# Altium footprint library RM_addition.PcbLib: 124 footprints (part 4 of 8)
Each footprint in its own frame and in the unit in brackets; x right, y up, seen from the top. Pads: shape width x height; smd on the part's side, far side on the other; paste and mask are expansions set on the pad; w line width, h text height; cw(c..) or ccw(c..) is an arc to the next point about the centre after c.
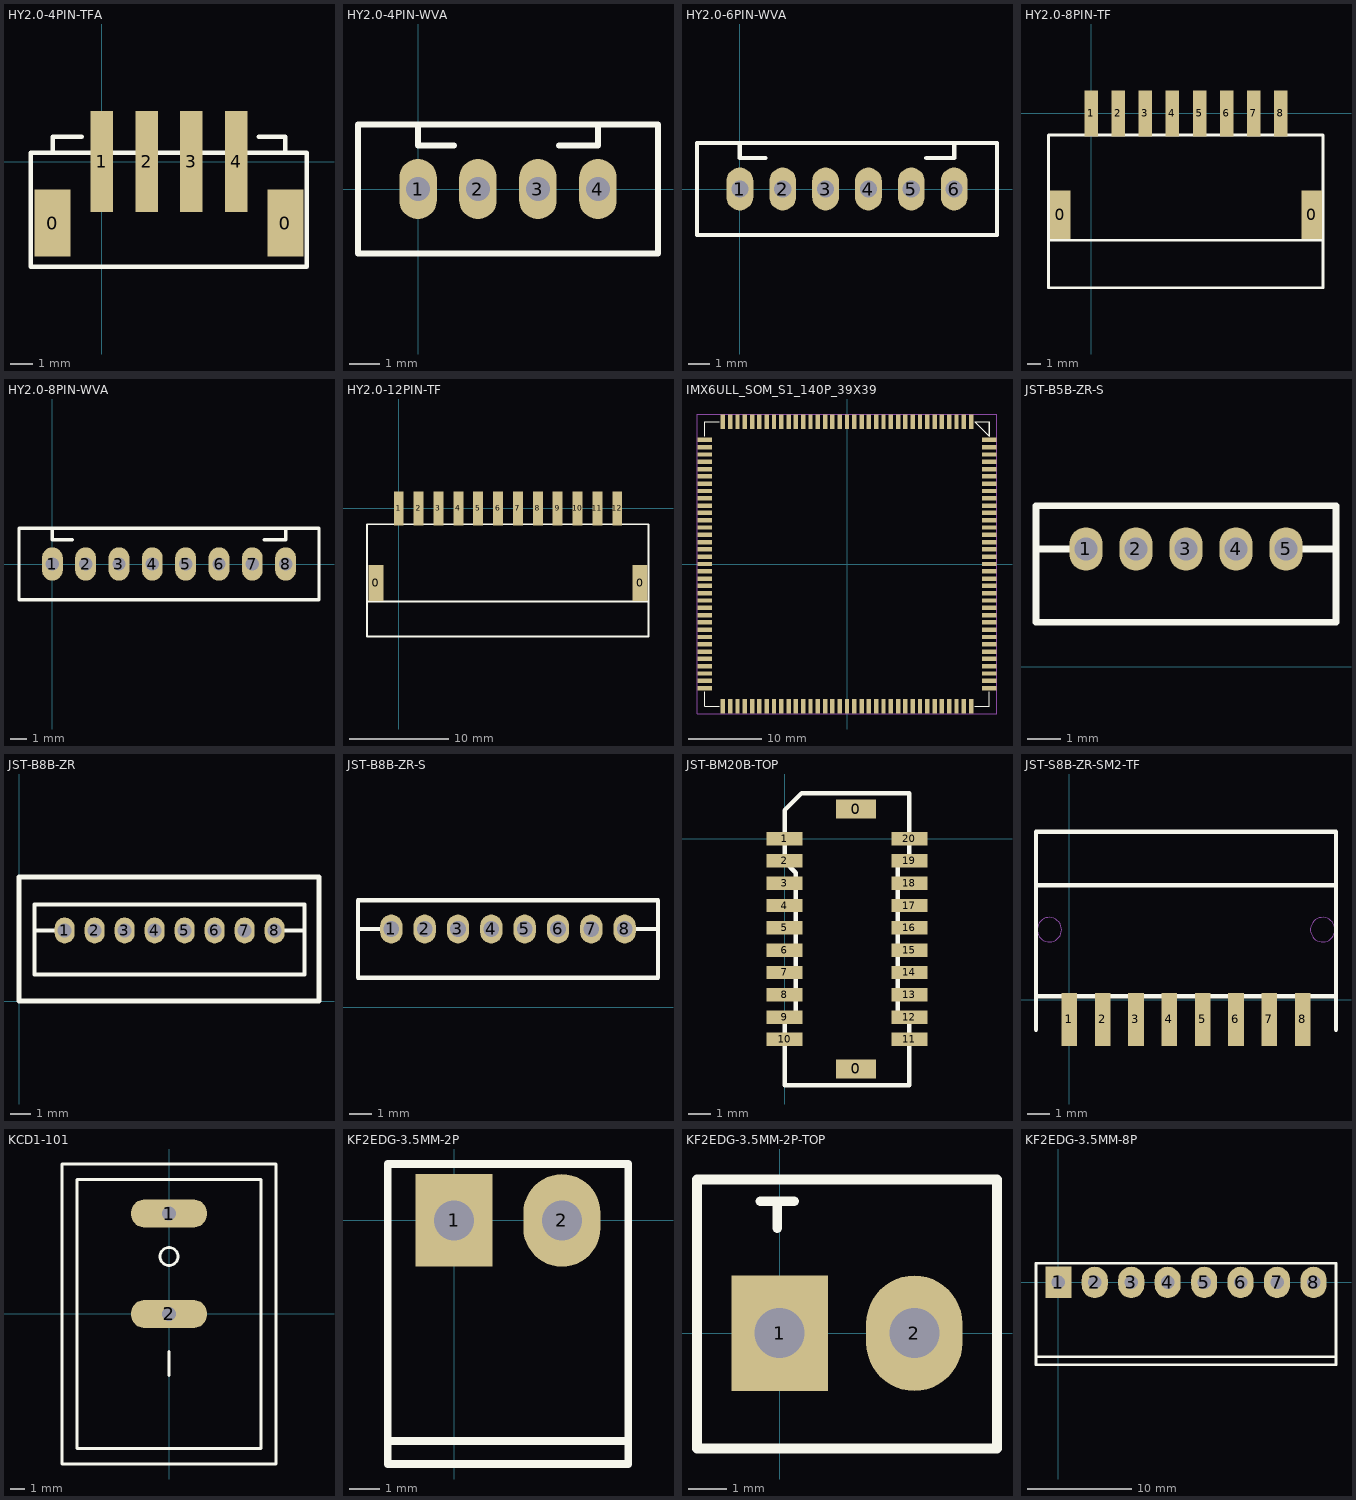
[diagram p3: the footprints below, top view; thin cyan lines are the x and y axes]

## HY2.0-4PIN-TFA [mm]
pads (6):
  rect 1.6x3 smd: 0(-2.2,-2.75) 0(8.2,-2.75)
  rect 1x4.5 smd: 1(0,0) 2(2,0) 3(4,0) 4(6,0)
Top Overlay:
  lines w0.2: -2.2,0.4 -2.2,1.1 -0.9,1.1 ; 7,1.1 8.2,1.1 8.2,0.4 ; -3.175,-4.7 -3.175,0.4 9.144,0.4 9.144,-4.7 -3.175,-4.7

## HY2.0-4PIN-WVA [mm]
pads (4):
  oval 1.25x2 hole 0.8: 1(0,0) 2(2,0) 3(4,0) 4(6,0)
Top Overlay:
  lines w0.2: 0,2.15 0,1.45 1.2,1.45 ; 4.7,1.45 6,1.45 6,2.15 ; -2,-2.15 -2,2.15 8,2.15 8,-2.15 -2,-2.15

## HY2.0-6PIN-WVA [mm]
pads (6):
  oval 1.25x2 hole 0.8: 1(0,0) 2(2,0) 3(4,0) 4(6,0) 5(8,0) 6(10,0)
Top Overlay:
  lines w0.2: 0,2.15 0,1.45 1.2,1.45 ; 8.7,1.45 10,1.45 10,2.15 ; -2,-2.15 12,-2.15 12,2.15 -2,2.15 -2,-2.15

## HY2.0-8PIN-TF [mm]
pads (10):
  rect 1.5x3.6 smd: 0(-2.3,-7.5) 0(16.3,-7.5)
  rect 1x3.4 smd: 1(0,0) 2(2,0) 3(4,0) 4(6,0) 5(8,0) 6(10,0) 7(12,0) 8(14,0)
Top Overlay:
  lines w0.2: -3.175,-9.398 -3.175,-12.898 17.145,-12.898 17.145,-9.398 ; -3.175,-9.398 17.145,-9.398 ; -3.175,-9.398 -3.175,-1.598 17.145,-1.598 17.145,-9.398

## HY2.0-8PIN-WVA [mm]
pads (8):
  oval 1.25x2 hole 0.8: 1(0,0) 2(2,0) 3(4,0) 4(6,0) 5(8,0) 6(10,0) 7(12,0) 8(14,0)
Top Overlay:
  lines w0.2: 0,2.15 0,1.45 1.2,1.45 ; 12.7,1.45 14,1.45 14,2.15 ; -2,-2.15 -2,2.15 16,2.15 16,-2.15 -2,-2.15

## HY2.0-12PIN-TF [mm]
pads (14):
  rect 1.5x3.6 smd: 0(-2.3,-7.5) 0(24.3,-7.5)
  rect 1x3.4 smd: 1(0,0) 2(2,0) 3(4,0) 4(6,0) 5(8,0) 6(10,0) 7(12,0) 8(14,0) 9(16,0) 10(18,0) 11(20,0) 12(22,0)
Top Overlay:
  lines w0.2: -3.175,-9.398 -3.175,-12.898 25.145,-12.898 25.145,-9.398 ; -3.175,-9.398 25.145,-9.398 ; -3.175,-9.398 -3.175,-1.598 25.145,-1.598 25.145,-9.398

## IMX6ULL_SOM_S1_140P_39X39 [mm]
pads (140):
  rect 0.6x2 smd mask+0.05: 1(17,19.5) 2(16,19.5) 3(15,19.5) 4(14,19.5) 5(13,19.5) 6(12,19.5) 7(11,19.5) 8(10,19.5) 9(9,19.5) 10(8,19.5) 11(7,19.5) 12(6,19.5) 13(5,19.5) 14(4,19.5) 15(3,19.5) 16(2,19.5) 17(1,19.5) 18(0,19.5) 19(-1,19.5) 20(-2,19.5) 21(-3,19.5) 22(-4,19.5) 23(-5,19.5) 24(-6,19.5) 25(-7,19.5) 26(-8,19.5) 27(-9,19.5) 28(-10,19.5) 29(-11,19.5) 30(-12,19.5) 31(-13,19.5) 32(-14,19.5) 33(-15,19.5) 34(-16,19.5) 35(-17,19.5) 71(-17,-19.5) 72(-16,-19.5) 73(-15,-19.5) 74(-14,-19.5) 75(-13,-19.5) 76(-12,-19.5) 77(-11,-19.5) 78(-10,-19.5) 79(-9,-19.5) 80(-8,-19.5) 81(-7,-19.5) 82(-6,-19.5) 83(-5,-19.5) 84(-4,-19.5) 85(-3,-19.5) 86(-2,-19.5) 87(-1,-19.5) 88(0,-19.5) 89(1,-19.5) 90(2,-19.5) 91(3,-19.5) 92(4,-19.5) 93(5,-19.5) 94(6,-19.5) 95(7,-19.5) 96(8,-19.5) 97(9,-19.5) 98(10,-19.5) 99(11,-19.5) 100(12,-19.5) 101(13,-19.5) 102(14,-19.5) 103(15,-19.5) 104(16,-19.5) 105(17,-19.5)
  rect 2x0.6 smd mask+0.05: 36(-19.5,17) 37(-19.5,16) 38(-19.5,15) 39(-19.5,14) 40(-19.5,13) 41(-19.5,12) 42(-19.5,11) 43(-19.5,10) 44(-19.5,9) 45(-19.5,8) 46(-19.5,7) 47(-19.5,6) 48(-19.5,5) 49(-19.5,4) 50(-19.5,3) 51(-19.5,2) 52(-19.5,1) 53(-19.5,0) 54(-19.5,-1) 55(-19.5,-2) 56(-19.5,-3) 57(-19.5,-4) 58(-19.5,-5) 59(-19.5,-6) 60(-19.5,-7) 61(-19.5,-8) 62(-19.5,-9) 63(-19.5,-10) 64(-19.5,-11) 65(-19.5,-12) 66(-19.5,-13) 67(-19.5,-14) 68(-19.5,-15) 69(-19.5,-16) 70(-19.5,-17) 106(19.5,-17) 107(19.5,-16) 108(19.5,-15) 109(19.5,-14) 110(19.5,-13) 111(19.5,-12) 112(19.5,-11) 113(19.5,-10) 114(19.5,-9) 115(19.5,-8) 116(19.5,-7) 117(19.5,-6) 118(19.5,-5) 119(19.5,-4) 120(19.5,-3) 121(19.5,-2) 122(19.5,-1) 123(19.5,0) 124(19.5,1) 125(19.5,2) 126(19.5,3) 127(19.5,4) 128(19.5,5) 129(19.5,6) 130(19.5,7) 131(19.5,8) 132(19.5,9) 133(19.5,10) 134(19.5,11) 135(19.5,12) 136(19.5,13) 137(19.5,14) 138(19.5,15) 139(19.5,16) 140(19.5,17)
Top Overlay:
  lines w0.025: 17.495,19.499 19.5,19.5 19.501,17.495 17.495,19.499
  lines w0.152: -19.5,-19.5 -17.5,-19.5 -19.5,-19.5 ; -19.5,-19.5 -19.5,-17.5 -19.5,-19.5 ; -19.5,19.5 -19.5,17.5 -19.5,19.5 ; -19.5,19.5 -17.5,19.5 -19.5,19.5 ; 19.5,-19.5 17.5,-19.5 19.5,-19.5 ; 19.5,-19.5 19.5,-17.5 19.5,-19.5 ; 19.5,19.5 19.5,17.5 19.5,19.5 ; 19.5,19.5 17.5,19.5 19.5,19.5
Assembly Top:
  text "J12" at -1.355,-0.635 h1.27
Mechanical 20:
  lines w0.025: -20.55,-20.55 20.55,-20.55 20.55,20.55 -20.55,20.55 -20.55,-20.55

## JST-B5B-ZR-S [mm]
pads (5):
  oval 1x1.3 hole 0.7: 1(2.286,3.526) 2(3.786,3.526) 3(5.286,3.526) 4(6.786,3.526) 5(8.286,3.526)
Top Overlay:
  lines w0.2: 0.786,3.526 2.286,3.526 ; 8.286,3.526 9.786,3.526 ; 0.786,1.326 0.786,4.826 9.786,4.826 9.786,1.326 0.786,1.326

## JST-B8B-ZR [mm]
pads (8):
  oval 1x1.3 hole 0.7: 1(2.286,3.526) 2(3.786,3.526) 3(5.286,3.526) 4(6.786,3.526) 5(8.286,3.526) 6(9.786,3.526) 7(11.286,3.526) 8(12.786,3.526)
Top Overlay:
  lines w0.2: 0.786,3.526 2.286,3.526 ; 12.786,3.526 14.286,3.526 ; 0.786,1.326 14.286,1.326 14.286,4.826 0.786,4.826 0.786,1.326
  lines w0.254: 0,0 15,0 15,6.2 0,6.2 0,0

## JST-B8B-ZR-S [mm]
pads (8):
  oval 1x1.3 hole 0.7: 1(2.286,3.526) 2(3.786,3.526) 3(5.286,3.526) 4(6.786,3.526) 5(8.286,3.526) 6(9.786,3.526) 7(11.286,3.526) 8(12.786,3.526)
Top Overlay:
  lines w0.2: 0.786,3.526 2.286,3.526 ; 12.786,3.526 14.286,3.526 ; 0.786,1.326 0.786,4.826 14.286,4.826 14.286,1.326 0.786,1.326

## JST-BM20B-TOP [mm]
pads (22):
  rect 1.8x0.85 smd: 0(3.2,-10.325) 0(3.2,1.325)
  rect 1.6x0.6 smd: 1(0,0) 2(0,-1) 3(0,-2) 4(0,-3) 5(0,-4) 6(0,-5) 7(0,-6) 8(0,-7) 9(0,-8) 10(0,-9) 11(5.6,-9) 12(5.6,-8) 13(5.6,-7) 14(5.6,-6) 15(5.6,-5) 16(5.6,-4) 17(5.6,-3) 18(5.6,-2) 19(5.6,-1) 20(5.6,0)
Top Overlay:
  lines w0.2: 0,-11.049 0,-8.001 0.508,-8.001 0.508,-1.524 0,-1.016 0,1.27 0.762,2.032 3.05,2.032 5.588,2.032 5.588,-1.016 5.08,-1.016 5.08,-8.001 5.588,-8.001 5.588,-11.049 0,-11.049

## JST-S8B-ZR-SM2-TF [mm]
pads (8):
  rect 0.7x2.4 smd: 1(0,-0.889) 2(1.5,-0.889) 3(3,-0.889) 4(4.5,-0.889) 5(6,-0.889) 6(7.5,-0.889) 7(9,-0.889) 8(10.5,-0.889)
Top Overlay:
  lines w0.2: -1.5,-1.35 -1.5,5.15 ; -1.5,0.15 12,0.15 ; 12,-1.35 12,5.15 ; -1.5,5.15 12,5.15 ; -1.5,5.15 -1.5,7.55 12,7.55 12,5.15
Mechanical 1:
  circle w0.013: c11.4,3.15 r0.55
  circle w0.013: c-0.9,3.15 r0.55

## KCD1-101 [mm]
pads (2):
  oval 5.4x2 hole 1 square: 1(0,7.1) 2(0,0)
Top Overlay:
  lines w0.2: -7.55,-10.6 -7.55,10.6 7.55,10.6 7.55,-10.6 -7.55,-10.6 ; -6.5,-9.5 -6.5,9.5 6.5,9.5 6.5,-9.5 -6.5,-9.5 ; -0.635,4.064 ccw(c0,4.064) 0.635,4.064 ccw(c0,4.064) -0.635,4.064
  lines w0.24: 0,-4.318 0,-2.667

## KF2EDG-3.5MM-2P [mm]
pads (2):
  rect 2.5x3 hole 1.3: 1(0,0)
  oval 2.5x3 hole 1.3: 2(3.5,0)
Top Overlay:
  lines w0.254: -2.13,-7.15 5.63,-7.15 ; -2.15,-7.9 5.65,-7.9 5.65,1.83 -2.15,1.83 -2.15,-7.9

## KF2EDG-3.5MM-2P-TOP [mm]
pads (2):
  rect 2.5x3 hole 1.3: 1(0,0)
  oval 2.5x3 hole 1.3: 2(3.5,0)
Top Overlay:
  lines w0.24: -0.508,3.429 0.381,3.429 ; -0.064,2.73 -0.064,3.429
  lines w0.254: -2.15,-3 -2.15,4 5.65,4 5.65,-3 -2.15,-3

## KF2EDG-3.5MM-8P [mm]
pads (8):
  rect 2.5x3 hole 1.3: 1(0,0)
  oval 2.5x3 hole 1.3: 2(3.5,0) 3(7,0) 4(10.5,0) 5(14,0) 6(17.5,0) 7(21,0) 8(24.5,0)
Top Overlay:
  lines w0.254: -2.13,-7.15 26.65,-7.15 ; -2.14,-7.9 26.65,-7.9 26.65,1.83 -2.14,1.83 -2.14,-7.9